# Altium integrated library Integrated_Library - 06.06.18 - 15.56.IntLib: 1 symbol
Pins are listed as number, name and electrical type; pins without a type are passive.

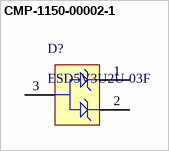
[diagram p0: symbol CMP-1150-00002-1]

## CMP-1150-00002-1
designator D?, comment ESD5V3U2U-03F
Ultra-Low Capacitance ESD Diode Array, -40 to 125 degC, PG-TSFP-3-1, Reel, Green; Manufacturer: Infineon; Rdyn typ reverse: 0.6Â Ohm; Rdyn typ forward: 0.5Â Ohm; VRWM (max): 5.3Â V; IR (max): 50Â uA; CL (typ): 0.4Â pF; IEFT: 40 A; VESD (max): 20Â kV; Isurge: 3 A; CL (max): 0.6Â pF; Green: TRUE; Protected Lines: 2; ComponentLink3URL: http://www.infineon.com/dgdl/TSFP-3-1%2C-2-Package_Overview.pdf?folderId=db3a30431936bc4b0119538cdcb03d2d&fileId=db3a30431936bc4b0119539929863d46; PartNumber: ESD5V3U2U-03F; ComponentLink3Description: Package Specification; ComponentLink2Description: Datasheet; ComponentLink2URL: http://www.infineon.com/dgdl/esd5v3u2useries.pdf?folderId=db3a30431441fb5d011488a9e66f0ded&fileId=db3a30431b0626df011b0d3e3ca97dc0; PackageReference: PG-TSFP-3-1; ComponentLink1URL: http://www.infineon.com/; Mounting Technology: Surface Mount; ComponentLink1Description: Manufacturer URL; PackageVersion: Apr-08; Halogen-free: TRUE; Packing: Reel; PackageDescription: 3-Pin Thin Small Flat Package, Body 1.2 x 0.8 mm, Pitch 0.4 mm
footprint INF-PG-TSFP-3-1_V (TSFP, 3-Leads, Body 1.2x0.8mm, Pitch 0.4mm)
pins: 1 K1, 2 K2, 3 A